# EAGLE library part TLV320AIC3256_RSB_40 (library Texas Instruments)
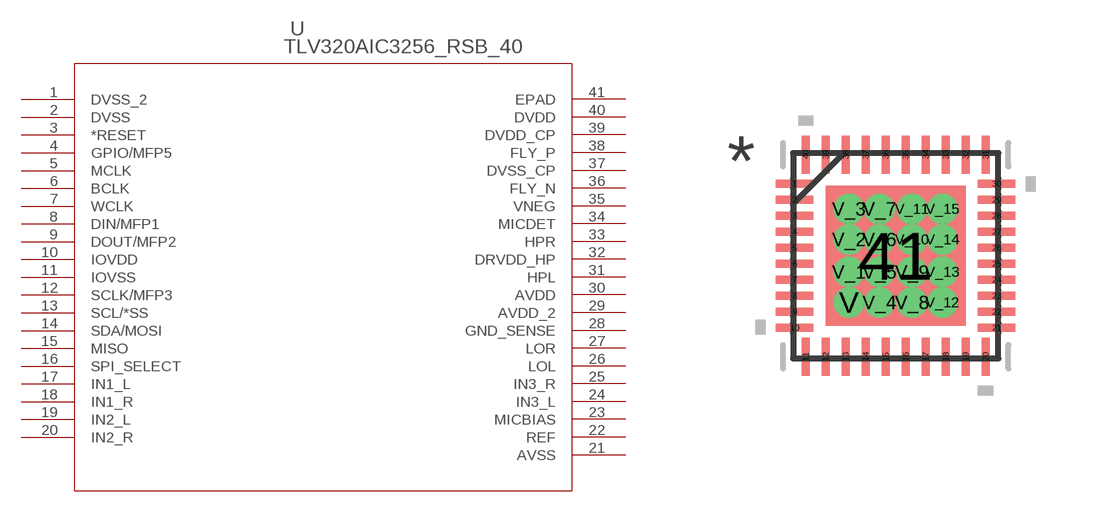
[diagram p18: symbol with the pads of RSB40_3P5X3P5; footprint RSB40_3P5X3P5]

Designator prefix U

## TLV320AIC3256_RSB_40 (DATASHEETURL: http://www.ti.com/lit/gpn/TLV320AIC3256; DESCRIPTION: Very Low-Power Stereo Codec with miniDSP and DirectPath(TM) HP Amplifier; FAMILY_NAME: Audio CODEC; GENERIC_PART_NUMBER: TLV320AIC3256; INDUSTRY_STD_PKG_TYPE: WQFN; MANUFACTURER: Texas Instruments; MANUFACTURER_PART_NUMBER: tlv320aic3256_rsb_40; PACKAGE_DESIGNATOR: RSB; PIN_COUNT: 40; VENDOR: Texas Instruments)  [RSB40_3P5X3P5]
1  DVSS_2  pwr
2  DVSS  pwr
3  *RESET  in
4  GPIO/MFP5
5  MCLK  in
6  BCLK
7  WCLK
8  DIN/MFP1  in
9  DOUT/MFP2  out
10  IOVDD  pwr
11  IOVSS  pwr
12  SCLK/MFP3  in
13  SCL/*SS  in
14  SDA/MOSI
15  MISO  out
16  SPI_SELECT  in
17  IN1_L  in
18  IN1_R  in
19  IN2_L  in
20  IN2_R  in
21  AVSS  pwr
22  REF  out
23  MICBIAS  out
24  IN3_L  in
25  IN3_R  in
26  LOL  out
27  LOR  out
28  GND_SENSE  pwr
29  AVDD_2  pwr
30  AVDD  pwr
31  HPL  out
32  DRVDD_HP  pwr
33  HPR  out
34  MICDET  in
35  VNEG  pwr
36  FLY_N  pwr
37  DVSS_CP  pwr
38  FLY_P  pwr
39  DVDD_CP  pwr
40  DVDD  pwr
41  EPAD  pas

## Footprint RSB40_3P5X3P5 (pad centres in mm)
smd 0.94 x 0.203: 1 -2.525,1.8; 2 -2.525,1.4; 3 -2.525,1; 4 -2.525,0.6; 5 -2.525,0.2; 6 -2.525,-0.2; 7 -2.525,-0.6; 8 -2.525,-1; 9 -2.525,-1.4; 10 -2.525,-1.8; 21 2.525,-1.8; 22 2.525,-1.4; 23 2.525,-1; 24 2.525,-0.6; 25 2.525,-0.2; 26 2.525,0.2; 27 2.525,0.6; 28 2.525,1; 29 2.525,1.4; 30 2.525,1.8
smd 0.203 x 0.94: 11 -2.251,-2.525; 12 -1.75,-2.525; 13 -1.25,-2.525; 14 -0.75,-2.525; 15 -0.25,-2.525; 16 0.25,-2.525; 17 0.75,-2.525; 18 1.25,-2.525; 19 1.75,-2.525; 20 2.251,-2.525; 31 2.251,2.525; 32 1.75,2.525; 33 1.25,2.525; 34 0.75,2.525; 35 0.25,2.525; 36 -0.25,2.525; 37 -0.75,2.525; 38 -1.25,2.525; 39 -1.75,2.525; 40 -2.251,2.525
smd 3.505 x 3.505: 41 0,0
drill 0.254: V -1.168,-1.168; V_1 -1.168,-0.406; V_2 -1.168,0.406; V_3 -1.168,1.168; V_4 -0.406,-1.168; V_5 -0.406,-0.406; V_6 -0.406,0.406; V_7 -0.406,1.168; V_8 0.406,-1.168; V_9 0.406,-0.406; V_10 0.406,0.406; V_11 0.406,1.168; V_12 1.168,-1.168; V_13 1.168,-0.406; V_14 1.168,0.406; V_15 1.168,1.168